# Altium schematic symbol library RA-08H.Schlib: 1 symbol
Pins are listed as number, name and electrical type; pins without a type are passive.

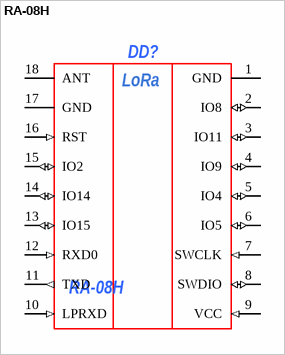
[diagram p0: symbol RA-08H]

## RA-08H
designator DD?
ManufacturerPartNumber: OLED 1.3 SSD1306; ComponentLink1Description: *; ComponentLink1URL: *; ComponentLink2Description: *; ComponentLink2URL: *; Power/Voltage: *; Rem: *; TKE: *; Tolerance: *; TU/GOST: *; Value: *; Корпус: *; Примечание: *; Manufacturer: *; Author: *; Type: *
footprint RA-08H
pins: 1 GND (power), 2 IO8 (io), 3 IO11 (io), 4 IO9 (io), 5 IO4 (io), 6 IO5 (io), 7 SWCLK (in), 8 SWDIO (io), 9 VCC (in), 10 LPRXD (in), 11 TXD (out), 12 RXD0 (in), 13 IO15 (io), 14 IO14 (io), 15 IO2 (io), 16 RST (in), 17 GND (power), 18 ANT
text: LoRa